# EAGLE library part RDA (library RDA)
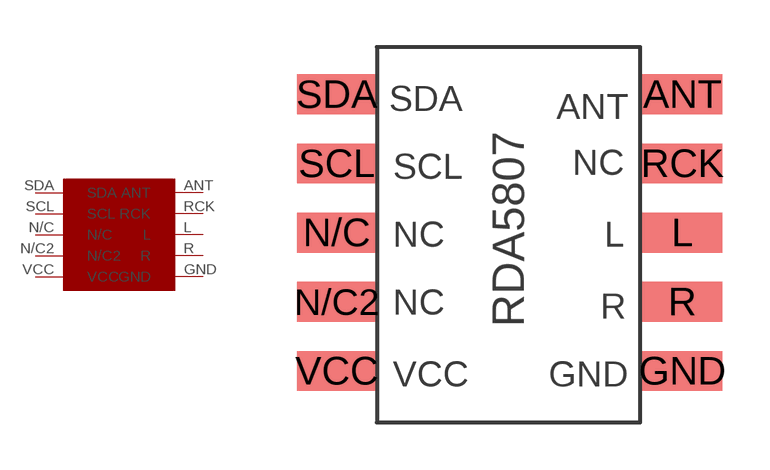
[diagram p0: symbol with the pads of RDA; footprint RDA]

Designator prefix -

## RDA  [RDA]
ANT  ANT  in
GND  GND  sup
L  L  out
N/C  N/C  pas
N/C2  N/C2  pas
R  R  out
RCK  RCK
SCL  SCL
SDA  SDA
VCC  VCC  pwr

## Footprint RDA (pad centres in mm)
smd 2.54 x 1.27: ANT 11,-1.5; GND 11,-10.3; L 11,-5.9; N/C 0,-5.9; N/C2 0,-8.1; R 11,-8.1; RCK 11,-3.7; SCL 0,-3.7; SDA 0,-1.5; VCC 0,-10.3